# Altium footprint library Inductors.PcbLib: 21 footprints (part 1 of 2)
Each footprint in its own frame and in the unit in brackets; x right, y up, seen from the top. Pads: shape width x height; smd on the part's side, far side on the other; paste and mask are expansions set on the pad; w line width, h text height; cw(c..) or ccw(c..) is an arc to the next point about the centre after c.
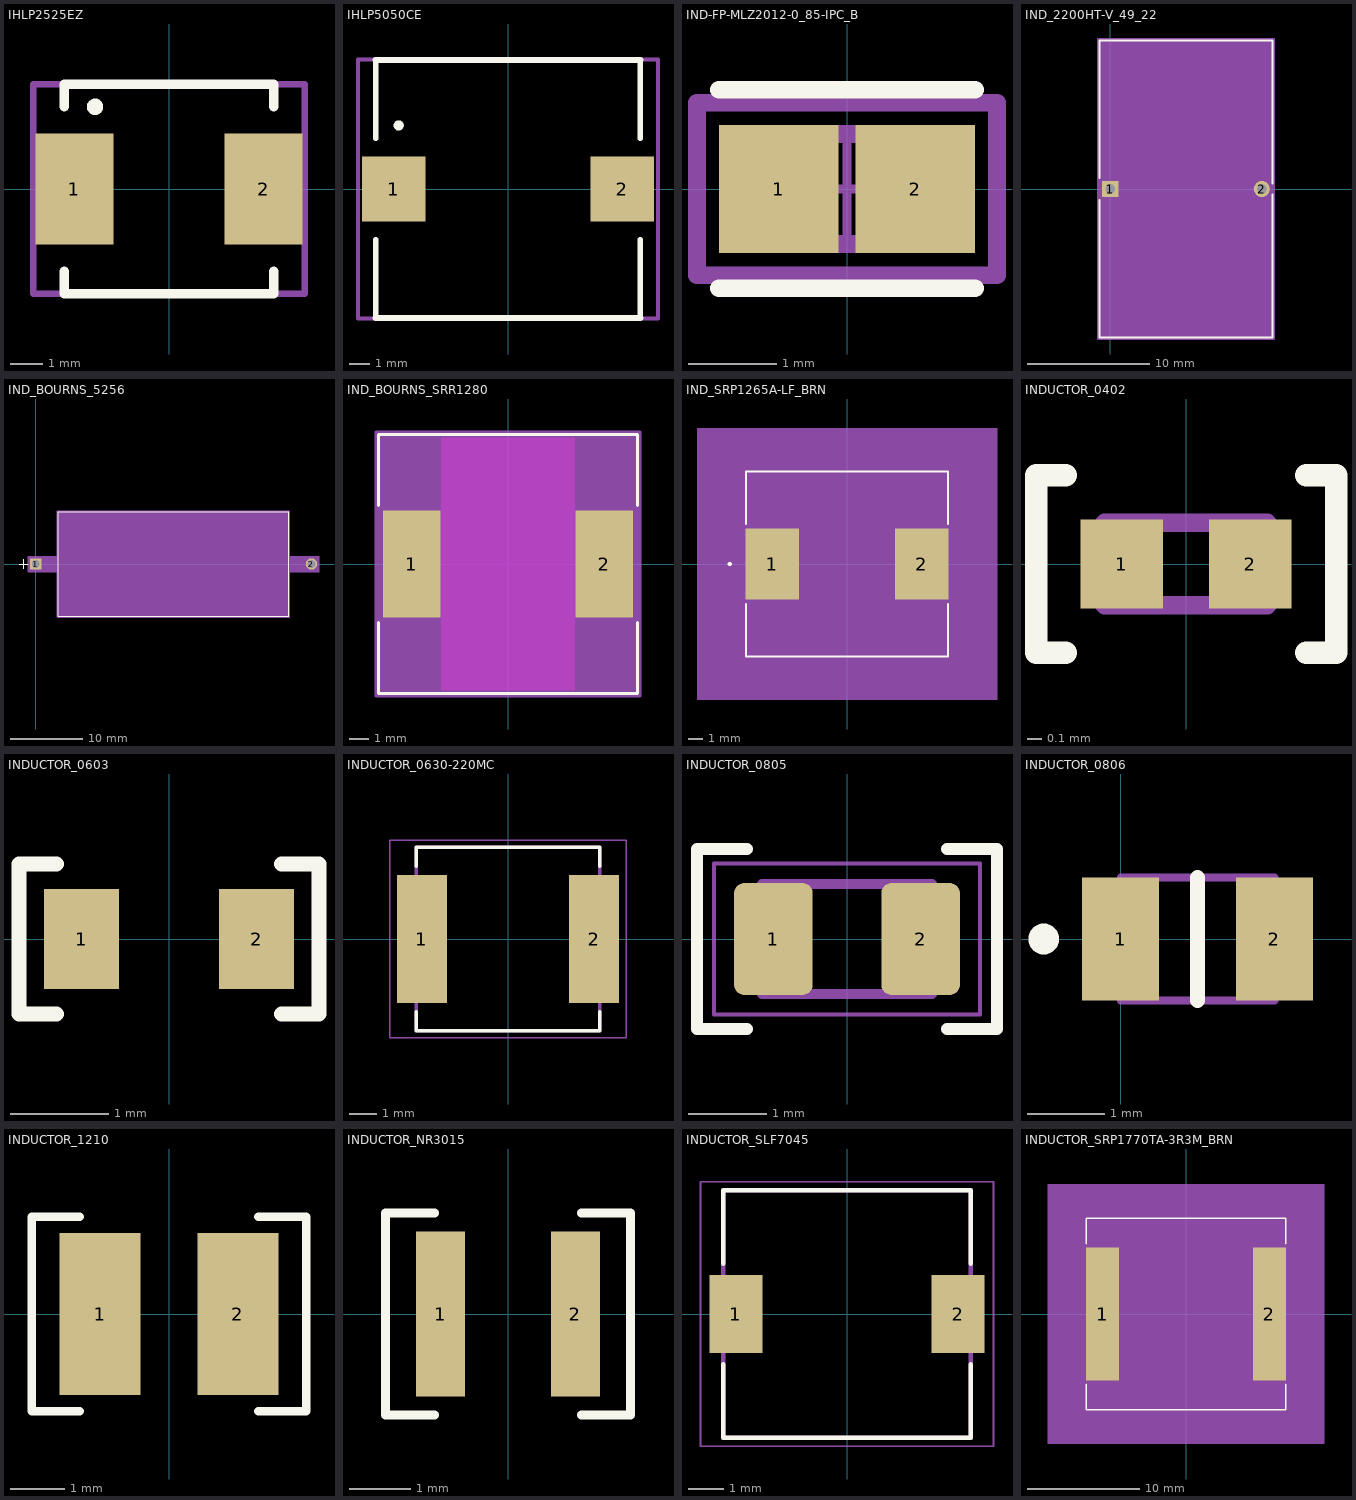
[diagram p0: the footprints below, top view; thin cyan lines are the x and y axes]

## IHLP2525EZ [mil]
pads (2):
  rect 95x135 smd: 1(-115,0) 2(115,0)
Top Overlay:
  circle w10: c-90,100 r5
  lines w12: -127.5,-100 -127.5,-127.5 127.5,-127.5 127.5,-100 ; -127.5,100 -127.5,127.5 127.5,127.5 127.5,100
Mechanical 1:
  lines w8: -165,-127.5 165,-127.5 165,127.5 -165,127.5 -165,-127.5
3D body "IHLP2525EZ.STEP": height 193, standoff 0.5, extent -145,-133.3 141.6,133.3

## IHLP5050CE [mil]
pads (2):
  rect 125x128 smd: 1(-225,0) 2(225,0)
Top Overlay:
  circle w10: c-215,125 r5
  lines w10.51: -260,-254 -260,-100 ; -260,100 -260,254 ; 260,-254 260,-100 ; 260,100 260,254
  lines w12: -260,-254 260,-254 ; -260,254 260,254
Mechanical 1:
  lines w8: -295,-255 295,-255 295,255 -295,255 -295,-255
3D body "IND_IHLP-5050CE-01_VIS.step": height 140, standoff 0, extent -267.48,-254.02 267.48,254.02

## IND-FP-MLZ2012-0_85-IPC_B [mm]
pads (2):
  rect 1.354x1.456 smd paste+0 mask+0: 1(-0.776,0) 2(0.776,0)
Top Overlay:
  lines w0.2: -1.453,-1.128 1.453,-1.128 ; -1.453,1.128 1.453,1.128
Top 3D Body:
  lines w0.2: -1,-0.625 1,-0.625 1,0.625 -1,0.625 -1,-0.625
Top Assembly:
  lines w0.2: -1.703,-0.978 1.703,-0.978 1.703,0.978 -1.703,0.978 -1.703,-0.978
  text ".Designator" at 0,0.188 h1
Top Courtyard:
  lines w0.2: -1.703,-0.978 1.703,-0.978 1.703,0.978 -1.703,0.978 -1.703,-0.978
Top Component Center:
  lines w0.1: -0.5,0 0.5,0 ; 0,-0.5 0,0.5
3D body "Ind_TDK_MLZ2012A1R0WT000_eec.STEP": height 0.25, standoff 0, extent -1.703,-0.978 1.703,0.978

## IND_2200HT-V_49_22 [mil]
pads (2):
  rect 52x52 / inner round 60 / far side rect 52x52 hole 32 paste-99999 mask+0: 1(0,0)
  round 52 / inner round 60 / far side round 52 hole 32 paste-99999 mask+0: 2(490,0)
Top Overlay:
  lines w6: -35,-35.52 -35,-480 525,-480 525,-17.43 ; -35,35.52 -35,480 525,480 525,17.43
Mechanical 13:
  lines w1: -30,-475 -30,475 520,475 520,-475 -30,-475
Mechanical 15:
  region: 530,-485 -40,-485 -40,485 530,485
  lines w6: -40,-485 530,-485 530,485 -40,485 -40,-485
3D body "IND_2200HT-V_49_22.step": height 950, standoff -165.98, extent -40.98,-475 509.02,475

## IND_BOURNS_5256 [mil]
pads (2):
  rect 62x62 / inner round 60 / far side rect 62x62 hole 42 paste-99999 mask+0: 1(0,0)
  round 62 / inner round 60 / far side round 62 hole 42 paste-99999 mask+0: 2(1506,0)
Top Overlay:
  lines w6: -91,0 -44.1,0 ; -66,-25 -66,25 ; 123,-285 1383,-285 1383,285 123,285 123,-285
Mechanical 13:
  lines w1: -91,0 -41,0 ; -66,-25 -66,25 ; 0,0 128,0 ; 1378,0 1506,0 ; 128,-280 1378,-280 1378,280 128,280 128,-280
Mechanical 15:
  region: 118,-41 -41,-41 -41,41 118,41 118,290 1388,290 1388,41 1547,41 1547,-41 1388,-41 1388,-290 118,-290
  lines w6: -41,-41 -41,41 118,41 118,290 1388,290 1388,41 1547,41 1547,-41 1388,-41 1388,-290 118,-290 118,-41 -41,-41
3D body "IND_BOURNS_5256.step": height 560.04, standoff -100, extent -15.98,-280.1 1522.01,280.1

## IND_BOURNS_SRR1280 [mil] "220 µH Shielded Drum Core, Wirewound Inductor 1.6 A 400mOhm Max Nonstandard"
pads (2):
  rect 114x213 smd paste+0 mask+0: 1(-191,0) 2(191,0)
Top Layer keep-out:
  region: -132,-250 -132,250 132,250 132,-250
Top Overlay:
  lines w6: -257,-116.02 -257,-257 257,-257 257,-116.02 ; -257,116.02 -257,257 257,257 257,116.02
Mechanical 13:
  lines w1: -252,-252 252,-252 252,252 -252,252 -252,-252
Mechanical 15:
  region: -262,-116.5 -262,116.5 -262,262 262,262 262,116.5 262,-116.5 262,-262 -262,-262
  lines w6: -262,-262 -262,-116.5 -262,116.5 -262,262 262,262 262,116.5 262,-116.5 262,-262 -262,-262
3D body "IND_BOURNS_SRR1280.step": height 315, standoff 0, extent -252.01,-252.09 252.01,252.09

## IND_SRP1265A-LF_BRN [mil]
pads (2):
  rect 148x197 smd paste+0 mask+0: 1(-207.5,0) 2(207.5,0)
Top Overlay:
  circle w6: c-325.5,0 r3
  lines w6: -280.5,-111.6 -280.5,-257 280.5,-257 280.5,-111.6 ; -280.5,111.6 -280.5,257 280.5,257 280.5,111.6
Mechanical 5:
  region: 416.5,-377 -416.5,-377 -416.5,377 416.5,377
Mechanical 13:
  circle w0: c-265.5,0 r3
  lines w1: -275.5,-252 275.5,-252 275.5,252 -275.5,252 -275.5,-252
Mechanical 15:
  region: -285.5,-108.5 -291.5,-108.5 -291.5,108.5 -285.5,108.5 -285.5,262 285.5,262 285.5,108.5 291.5,108.5 291.5,-108.5 285.5,-108.5 285.5,-262 -285.5,-262
  lines w6: -291.5,-108.5 -291.5,108.5 -285.5,108.5 -285.5,262 285.5,262 285.5,108.5 291.5,108.5 291.5,-108.5 285.5,-108.5 285.5,-262 -285.5,-262 -285.5,-108.5 -291.5,-108.5
3D body "IND_SRP1265A-LF_BRN.step": height 257.99, standoff 0, extent -275.51,-252.01 275.51,252.01

## INDUCTOR_0402 [mm]
pads (2):
  rect 0.56x0.6 smd: 1(-0.435,0) 2(0.435,0)
Top Overlay:
  lines w0.152: -0.816,-0.6 -1.016,-0.6 -1.016,0.6 -0.815,0.6 ; 0.815,-0.6 1.016,-0.6 1.016,0.6 0.816,0.6
Mechanical 13:
  lines w0.127: -0.55,-0.28 0.55,-0.28 0.55,0.28 -0.55,0.28 -0.55,-0.28
3D body "GRT155R70J105KE01D.STEP": height 0.51, standoff 0.01, extent -0.5,-0.275 0.5,0.275

## INDUCTOR_0603 [mil] "INDUCTOR 0603"
pads (2):
  rect 30x40 smd: 1(-35,0) 2(35,0)
Top Overlay:
  lines w6: -45,-30 -60,-30 -60,30 -45,30 ; 45,-30 60,-30 60,30 45,30
3D body "Capcap.SLDPRT": height 31.5, standoff 0, extent -31.49,-15.74 31.5,15.75

## INDUCTOR_0630-220MC [mm]
pads (2):
  rect 1.8x4.6 smd: 1(-3.1,0) 2(3.1,0)
Top Overlay:
  lines w0.127: -3.3,-2.62 -3.3,-3.3 3.3,-3.3 3.3,-2.62 ; -3.3,2.62 -3.3,3.3 3.3,3.3 3.3,2.62
Mechanical 13:
  lines w0.127: -3.3,-3.3 -3.3,3.3 3.3,3.3 3.3,-3.3 -3.3,-3.3
Mechanical 15:
  lines w0.05: -4.25,-3.55 -4.25,3.55 4.25,3.55 4.25,-3.55 -4.25,-3.55
3D body "step_temp.STEP": height 3, standoff 0, extent -3.55,-3.3 3.55,3.3

## INDUCTOR_0805 [mm]
pads (2):
  rrect25% 1x1.42 smd: 1(-0.935,0) 2(0.935,0)
Top Overlay:
  lines w0.152: -1.27,-1.143 -1.905,-1.143 -1.905,1.143 -1.27,1.143 ; 1.27,-1.143 1.905,-1.143 1.905,1.143 1.27,1.143
Mechanical 13:
  lines w0.127: -1.08,-0.7 -1.08,0.7 1.08,0.7 1.08,-0.7 -1.08,-0.7
Mechanical 15:
  lines w0.05: -1.69,-0.96 -1.69,0.96 1.69,0.96 1.69,-0.96 -1.69,-0.96
3D body "RES_ERA6A_0805_PAN.step": height 0.61, standoff 0, extent -1.105,-0.673 1.105,0.673

## INDUCTOR_0806 [mm]
pads (2):
  rect 1x1.6 smd: 1(0,0) 2(2,0)
Top Overlay:
  lines w0.2: 1,-0.8 1,0.8 ; -1,-0.1 cw(c-1,0) -1,0.1 cw(c-1,0) -1,-0.1
Mechanical 15:
  lines w0.1: 0,-0.8 2,-0.8 2,0.8 0,0.8 0,-0.8

## INDUCTOR_1210 [mm] "1210 SMD Inductor Unshielded"
pads (2):
  rect 1.5x3 smd: 1(-1.275,0) 2(1.275,0)
Top Overlay:
  lines w0.152: -1.651,-1.8 -2.54,-1.8 -2.54,1.8 -1.651,1.8 ; 1.651,-1.8 2.54,-1.8 2.54,1.8 1.651,1.8
3D body "User Library-Chip Inductor.step": height 1.36, standoff 0.01, extent -1.6,-1.25 1.6,1.25

## INDUCTOR_NR3015 [mm] "NR3015 Series Inductor Footprint"
pads (2):
  rect 0.8x2.7 smd: 1(-1.1,0) 2(1.1,0)
Top Overlay:
  lines w0.152: -1.2,-1.65 -2,-1.65 -2,1.65 -1.2,1.65 ; 1.2,-1.65 2,-1.65 2,1.65 1.2,1.65
3D body "IND_TAIYO_NR3015_TAY.step": height 1.5, standoff 0, extent -1.549,-1.552 1.549,1.552

## INDUCTOR_SLF7045 [mm]
height 4.8
pads (2):
  rect 1.5x2.2 smd: 1(-3.15,0) 2(3.15,0)
Top Overlay:
  lines w0.127: -3.5,-1.42 -3.5,-3.5 3.5,-3.5 3.5,-1.42 ; -3.5,1.42 -3.5,3.5 3.5,3.5 3.5,1.42
Mechanical 13:
  lines w0.127: -3.5,-3.5 -3.5,3.5 3.5,3.5 3.5,-3.5 -3.5,-3.5
Mechanical 15:
  lines w0.05: -4.15,-3.75 -4.15,3.75 4.15,3.75 4.15,-3.75 -4.15,-3.75
3D body "step_temp.STEP": height 4.8, standoff 0, extent -3.5,-3.5 3.5,3.5

## INDUCTOR_SRP1770TA-3R3M_BRN [mil]
pads (2):
  rect 117x469 smd paste+0 mask+0: 1(-293.96,0) 2(293.96,0)
Top Overlay:
  lines w6: -351.46,-247.6 -351.46,-337.5 351.46,-337.5 351.46,-247.6 ; -351.46,247.6 -351.46,337.5 351.46,337.5 351.46,247.6
Mechanical 5:
  region: 487.46,-457.5 -487.46,-457.5 -487.46,457.5 487.46,457.5
Mechanical 13:
  lines w1: -346.46,-332.5 346.46,-332.5 346.46,332.5 -346.46,332.5 -346.46,-332.5
Mechanical 15:
  region: -356.46,-244.5 -362.46,-244.5 -362.46,244.5 -356.46,244.5 -356.46,342.5 356.46,342.5 356.46,244.5 362.46,244.5 362.46,-244.5 356.46,-244.5 356.46,-342.5 -356.46,-342.5
  lines w6: -362.46,-244.5 -362.46,244.5 -356.46,244.5 -356.46,342.5 356.46,342.5 356.46,244.5 362.46,244.5 362.46,-244.5 356.46,-244.5 356.46,-342.5 -356.46,-342.5 -356.46,-244.5 -362.46,-244.5
3D body "SRP1770TA-3R3M_BRN.step": height 265.98, standoff 0, extent -346.46,-332.52 346.46,332.52